# Altium footprint library RCDQLY.PCBLIB: 149 footprints (part 9 of 10)
Each footprint in its own frame and in the unit in brackets; x right, y up, seen from the top. Pads: shape width x height; smd on the part's side, far side on the other; paste and mask are expansions set on the pad; w line width, h text height; cw(c..) or ccw(c..) is an arc to the next point about the centre after c.
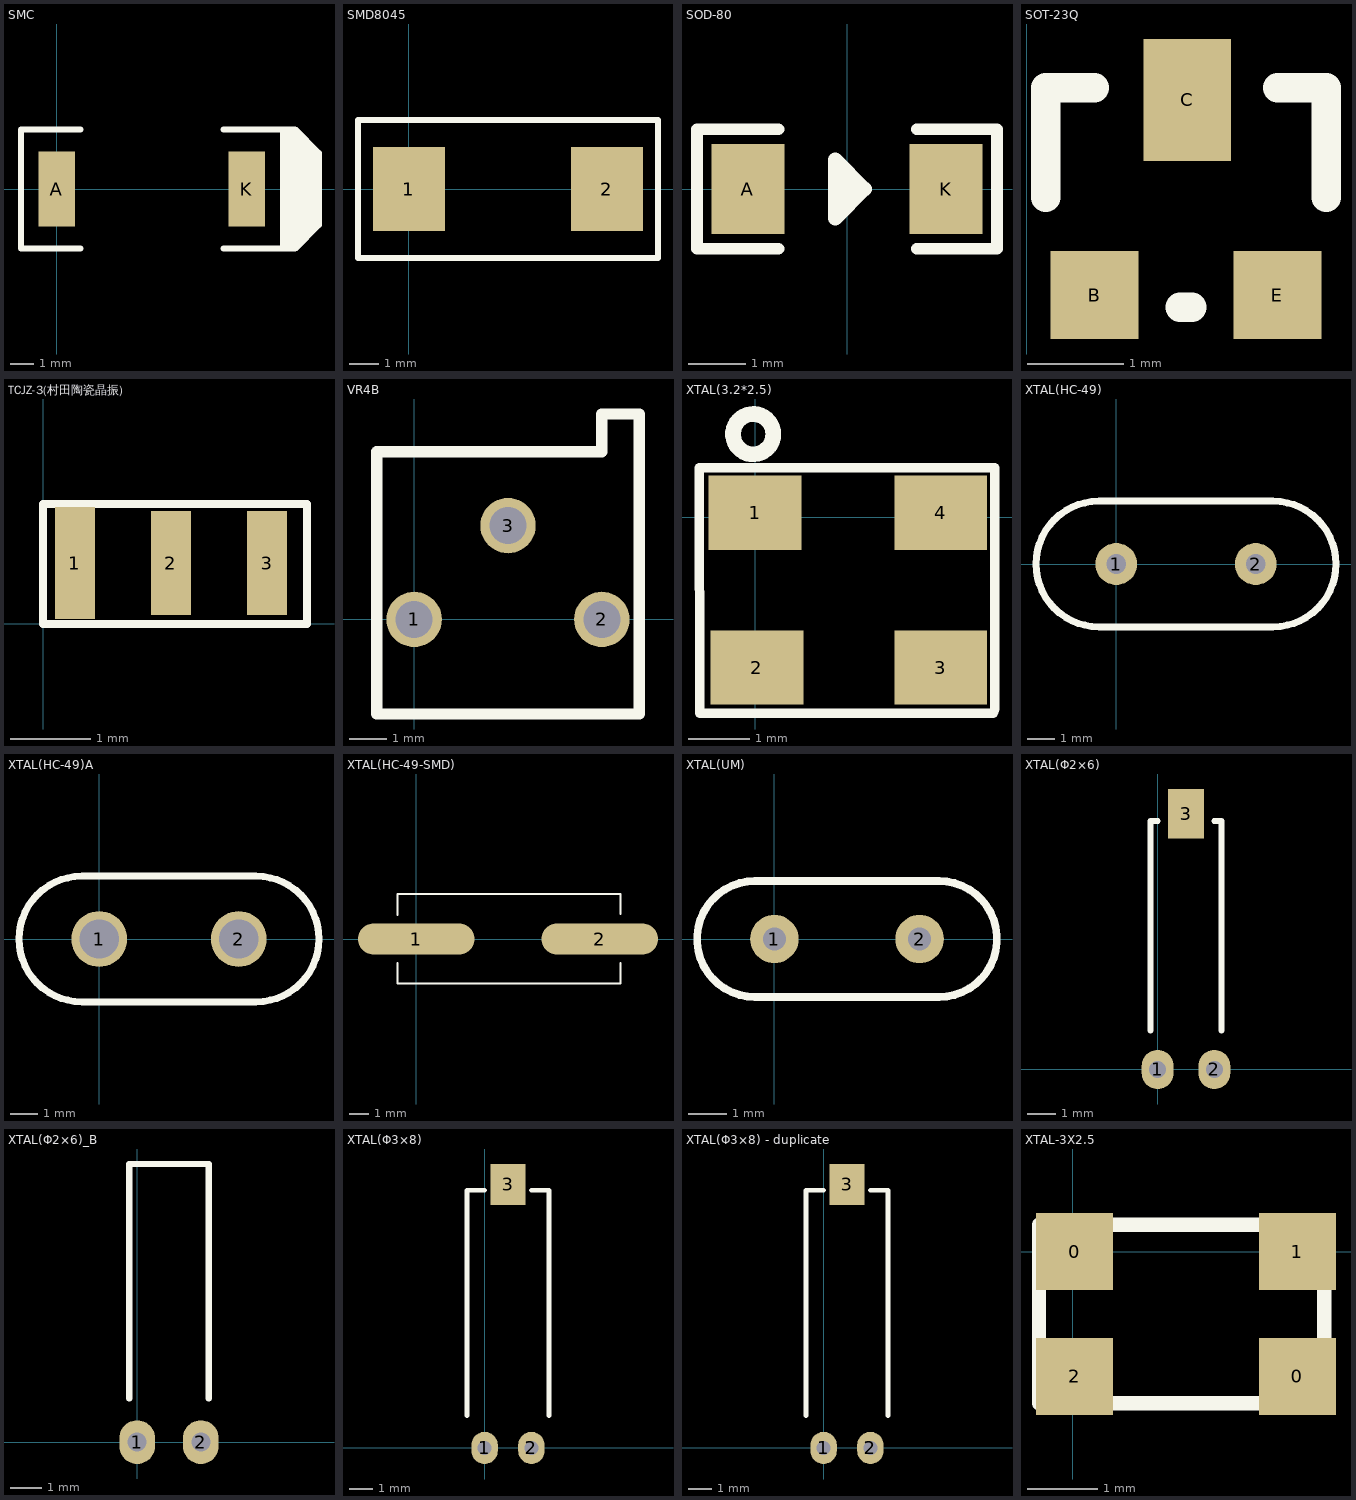
[diagram p8: the footprints below, top view; thin cyan lines are the x and y axes]

## SMC [mm]
pads (2):
  rect 1.55x3.2 smd: A(0,0) K(8.1,0)
TopOverlay:
  rectangle: 9.652,-2.54 10.16,2.54
  rectangle: 10.16,-1.524 11.176,1.524
  rectangle: 10.033,1.397 10.414,2.286
  rectangle: 9.906,-2.286 10.541,-1.397
  rectangle: 10.287,1.27 10.668,2.032
  rectangle: 10.541,-1.905 10.795,-1.397
  rectangle: 10.668,1.27 11.015,1.685
  rectangle: 10.611,1.708 10.798,1.902
  rectangle: 10.668,1.685 10.937,1.763
  rectangle: 10.344,1.975 10.552,2.148
  rectangle: 10.033,2.286 10.332,2.368
  lines w0.254: 1.016,-2.54 -1.524,-2.54 -1.524,2.54 1.016,2.54 ; 7.112,-2.54 9.652,-2.54 ; 7.112,2.54 9.652,2.54 ; 10.033,2.286 10.922,1.397 ; 10.922,-1.524 10.16,-2.286 10.16,-2.54 ; 9.652,-2.54 9.652,2.54 ; 9.652,-2.54 10.16,-2.54 ; 9.652,2.54 10.16,2.54 ; 10.16,-2.54 11.176,-1.524 11.176,1.524 ; 10.16,2.54 11.176,1.524 ; 10.16,2.54 11.176,1.524

## SMD8045 [mm]
pads (2):
  rect 2.4x2.8 smd: 1(0,0) 2(6.6,0)
TopOverlay:
  lines w0.203: -1.7,-2.3 -1.7,2.3 8.253,2.3 ; -1.653,-2.3 8.3,-2.3 8.3,2.3

## SOD-80 [mil]
pads (2):
  rect 50x62 smd: A(-68,0) K(68,0)
TopOverlay:
  lines w8: -47,-41 -103,-41 -103,41 -47,41 ; 48,-41 103,-41 103,41 48,41
  lines w10: -8,-10 -3,-10 2,-5 2,0 -1.96,3.96 -8,10 -8,20 ; -8,20 12,0 -8,-20 -8,20

## SOT-23Q [mil]
pads (3):
  rect 36x36 smd: B(27.75,-120.28) E(102.75,-120.28)
  rect 36x50 smd: C(65.75,-40.28)
TopOverlay:
  lines w12: 7.75,-80.28 7.75,-35.28 27.75,-35.28 ; 62.76,-125.28 67.75,-125.28 ; 102.75,-35.28 122.75,-35.28 122.75,-80.28

## TCJZ-3(村田陶瓷晶振) [mm]
pads (3):
  rect 0.5x1.4 smd: 1(0.4,0.762)
  rect 0.5x1.3 smd: 2(1.6,0.762) 3(2.8,0.762)
TopOverlay:
  lines w0.1: 0,0 3.3,0 3.3,1.5 0,1.5 0,0

## VR4B [mm]
pads (3):
  round 1.5 hole 1: 1(0,0) 2(5.08,0) 3(2.54,2.54)
TopOverlay:
  lines w0.305: -1.01,-2.56 -1.01,4.54 5.08,4.54 5.08,5.562 6.09,5.562 6.09,-2.56 -1.01,-2.56

## XTAL(3.2*2.5) [mm]
pads (4):
  rect 1.5x1.2 smd: 1(0,0.076) 2(0.03,-2.424) 3(3,-2.424) 4(3,0.076)
TopOverlay:
  circle w0.254: c-0.031,1.346 r0.325
  lines w0.152: 3.85,0.806 -0.9,0.806 -0.89,-3.164 3.85,-3.164 3.87,-3.084 3.87,0.806

## XTAL(HC-49) [mil]
pads (2):
  round 60 hole 28: 1(0,0) 2(200,0)
TopOverlay:
  lines w10: -25,-90 cw(c-25,0) -25,90 225,90 cw(c225,0) 225,-90 -25,-90

## XTAL(HC-49)A [mil]
pads (2):
  round 80 hole 56: 1(0,0) 2(200,0)
TopOverlay:
  lines w10: -25,-90 cw(c-25,0) -25,90 225,90 cw(c225,0) 225,-90 -25,-90

## XTAL(HC-49-SMD) [mil]
pads (2):
  oval 236x63 smd: 1(0,0) 2(371,0)
TopOverlay:
  lines w4: -38,-49 -38,-90 413,-90 413,-49 ; -38,49 -38,91 413,91 413,51

## XTAL(UM) [mil]
pads (2):
  round 50 hole 24: 1(0,0) 2(150,0)
TopOverlay:
  lines w8: -20,-60 cw(c-20,0) -20,60 170,60 cw(c170,0) 170,-60 -20,-60

## XTAL(Φ2×6) [mil]
pads (3):
  oval 45x55 hole 24: 1(0,0) 2(80,0)
  rect 50x70 smd: 3(40,360)
TopOverlay:
  lines w8: -10,55 -10,350 0,350 ; 80,350 90,350 90,55

## XTAL(Φ2×6)_B [mil]
pads (2):
  oval 45x55 hole 24: 1(0,0) 2(80,0)
TopOverlay:
  lines w8: -10,55 -10,350 ; 0,350 -10,350 ; 90,55 90,350 80,350 -10,350

## XTAL(Φ3×8) [mil]
pads (3):
  oval 45x55 hole 24: 1(0,0) 2(80,0)
  rect 60x70 smd: 3(40,450)
TopOverlay:
  lines w8: -30,55 -30,440 0,440 ; 80,440 110,440 110,55

## XTAL(Φ3×8) - duplicate [mil]
pads (3):
  oval 45x55 hole 24: 1(0,0) 2(80,0)
  rect 60x70 smd: 3(40,450)
TopOverlay:
  lines w8: -30,55 -30,440 0,440 ; 80,440 110,440 110,55

## XTAL-3X2.5 [mm]
pads (4):
  rect 1.1x1.1 smd: 0(0.025,0) 0(3.2,-1.778) 1(3.2,0) 2(0.025,-1.778)
TopOverlay:
  lines w0.203: -0.483,-2.159 3.581,-2.159 3.581,0.381 -0.483,0.381 -0.483,-2.159